# EAGLE library part 24F16KL401 (library custom)
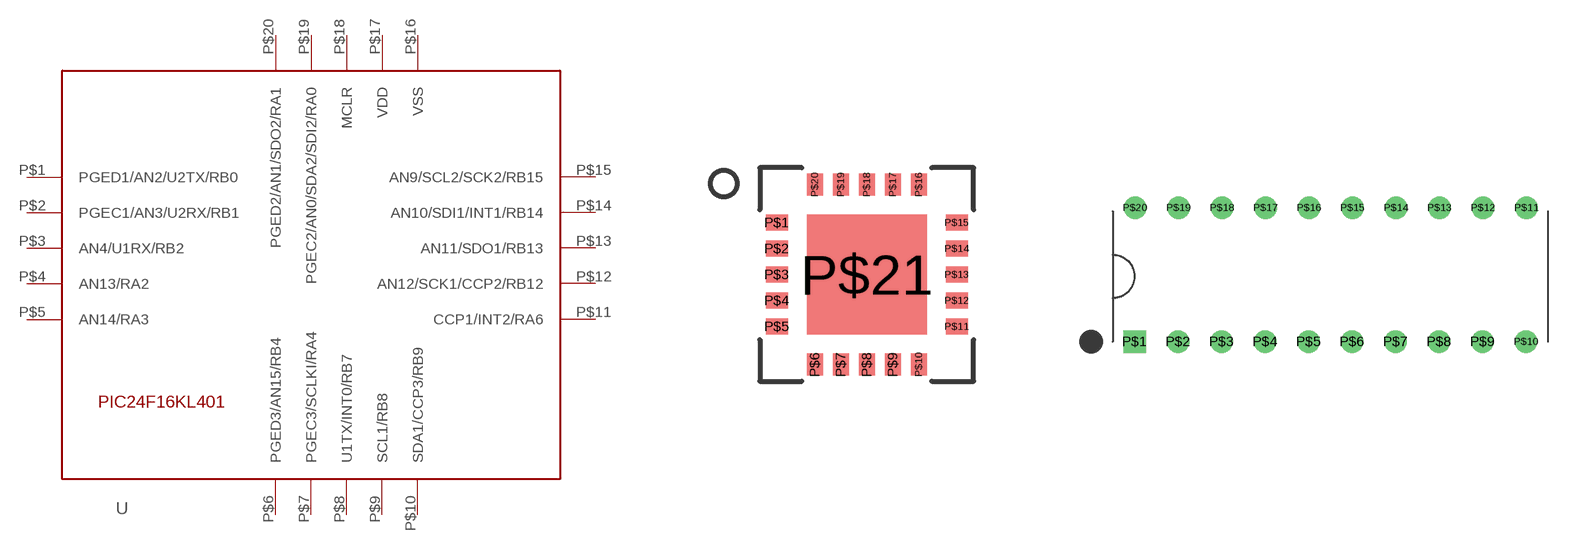
[diagram p37: symbol with the pads of QFN_20_5MM_5MM; footprints QFN_20_5MM_5MM, DIP20]

Designator prefix -

## 24F16KL401  [QFN_20_5MM_5MM]
P$1  PGED1/AN2/U2TX/RB0
P$2  PGEC1/AN3/U2RX/RB1
P$3  AN4/U1RX/RB2
P$4  AN13/RA2
P$5  AN14/RA3
P$6  PGED3/AN15/RB4
P$7  PGEC3/SCLKI/RA4
P$8  U1TX/INT0/RB7
P$9  SCL1/RB8
P$10  SDA1/CCP3/RB9
P$11  CCP1/INT2/RA6
P$12  AN12/SCK1/CCP2/RB12
P$13  AN11/SDO1/RB13
P$14  AN10/SDI1/INT1/RB14
P$15  AN9/SCL2/SCK2/RB15
P$16  VSS
P$17  VDD
P$18  MCLR
P$19  PGEC2/AN0/SDA2/SDI2/RA0
P$20  PGED2/AN1/SDO2/RA1

## 24F16KL401DIP  [DIP20]
P$1  MCLR
P$2  PGEC2/AN0/SDA2/SDI2/RA0
P$3  PGED2/AN1/SDO2/RA1
P$4  PGED1/AN2/U2TX/RB0
P$5  PGEC1/AN3/U2RX/RB1
P$6  AN4/U1RX/RB2
P$7  AN13/RA2
P$8  AN14/RA3
P$9  PGED3/AN15/RB4
P$10  PGEC3/SCLKI/RA4
P$11  U1TX/INT0/RB7
P$12  SCL1/RB8
P$13  SDA1/CCP3/RB9
P$14  CCP1/INT2/RA6
P$15  AN12/SCK1/CCP2/RB12
P$16  AN11/SDO1/RB13
P$17  AN10/SDI1/INT1/RB14
P$18  AN9/SCL2/SCK2/RB15
P$19  VSS
P$20  VDD

## Footprint QFN_20_5MM_5MM (pad centres in mm)
smd 0.55 x 0.4: P$1 -2.25,1.3; P$2 -2.25,0.65; P$3 -2.25,0; P$4 -2.25,-0.65; P$5 -2.25,-1.3; P$11 2.25,-1.3; P$12 2.25,-0.65; P$13 2.25,0; P$14 2.25,0.65; P$15 2.25,1.3
smd 0.4 x 0.55: P$6 -1.3,-2.25; P$7 -0.65,-2.25; P$8 0,-2.25; P$9 0.65,-2.25; P$10 1.3,-2.25; P$16 1.3,2.25; P$17 0.65,2.25; P$18 0,2.25; P$19 -0.65,2.25; P$20 -1.3,2.25
smd 3 x 3: P$21 0,0

## Footprint DIP20 (pad centres in mm)
drill 0.8 square: P$1 -11.43,-3.81
drill 0.8 round: P$2 -8.89,-3.81; P$3 -6.35,-3.81; P$4 -3.81,-3.81; P$5 -1.27,-3.81; P$6 1.27,-3.81; P$7 3.81,-3.81; P$8 6.35,-3.81; P$9 8.89,-3.81; P$10 11.43,-3.81; P$11 11.455,4.013; P$12 8.915,4.013; P$13 6.375,4.013; P$14 3.835,4.013; P$15 1.295,4.013; P$16 -1.245,4.013; P$17 -3.785,4.013; P$18 -6.325,4.013; P$19 -8.865,4.013; P$20 -11.405,4.013